# Altium schematic symbol library Delta_Power_supply.SchLib: 1 symbol
Pins are listed as number, name and electrical type; pins without a type are passive.

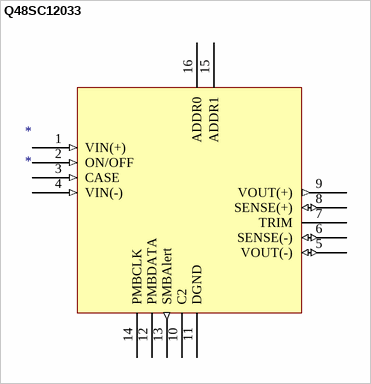
[diagram p0: symbol Q48SC12033]

## Q48SC12033
designator *
footprint PCBComponent_1
pins: 1 VIN(+) (in), 2 ON/OFF (in), 3 CASE (in), 4 VIN(-) (in), 5 VOUT(-) (io), 6 SENSE(-) (io), 7 TRIM, 8 SENSE(+) (io), 9 VOUT(+) (out), 10 C2, 11 DGND, 12 PMBDATA, 13 SMBAlert (out), 14 PMBCLK, 15 ADDR1, 16 ADDR0